# Altium schematic symbol library RX8 GPS engine.SCHLIB: 17 symbols
Pins are listed as number, name and electrical type; pins without a type are passive.

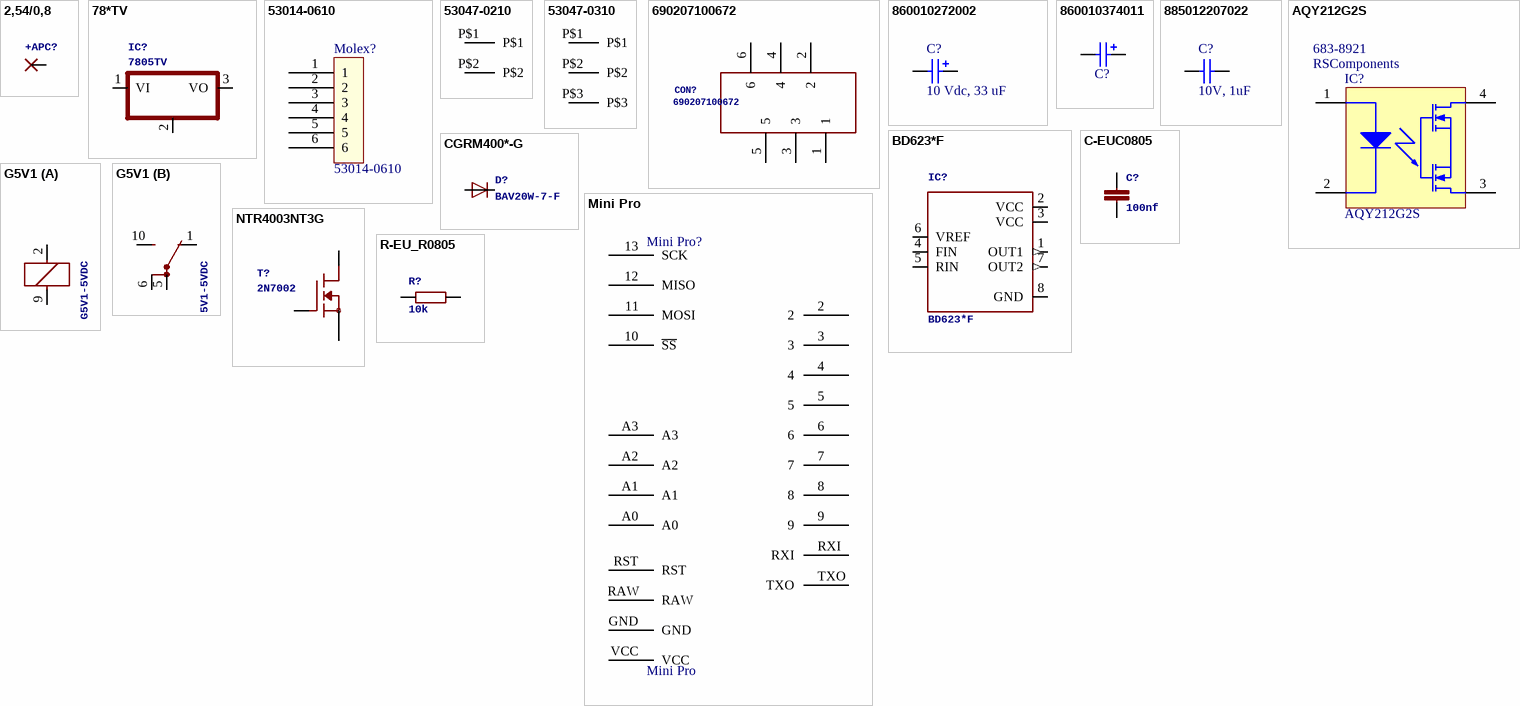
[diagram p0: symbols 2,54/0,8 to R-EU_R0805]

## 2,54/0,8
designator +APC?  (value not drawn)  (no BOM)
THROUGH-HOLE PAD
footprint 2,54/0,8
pins: 1 P

## 78*TV
designator IC?, comment 7805TV
Positive VOLTAGE REGULATOR   Source: http://cache.national.com/ds/LM/LM78L05.pdf http://www.fairchildsemi.com/ds/LM/LM7805.pdf; Manufacturer: ST Microelectronic; Manufacturer Part Number: L7805ACV; Mount: Through Hole; Supplier 1: RSComponents; Supplier Part Number 1: 295-8508
footprint TO220V
pins: 1 VI, 2 GND, 3 VO

## 53014-0610
designator Molex?
Molex connector for push button; Supplier 1: RSComponents; Supplier Part Number 1: 688-2643; Manufacturer: Molex; Manufacturer Part Number: 53014-0610; Mount: Through Hole; Min Operating Temperature: -20°C; Max Operating Temperature: 85°C; Termination: Solder; Length: 14mm
footprint 053014-0610
pins: 1, 2, 3, 4, 5, 6

## 53047-0210
designator U_MOT?  (value not drawn)
Molex Connector for motor; Manufacturer: Molex; Manufacturer Part Number: 53047-0210; Supplier 1: RSComponents; Supplier Part Number 1: 279-9213
footprint 53047-0210
pins: P$1, P$2

## 53047-0310
designator U_POT?  (value not drawn)
Molex connector for position sensor; Manufacturer: Molex; Manufacturer Part Number: 53047-0310; Supplier 1: RSComponents; Supplier Part Number 1: 319-1064
footprint 53047-0310
pins: P$1, P$2, P$3

## 690207100672
designator CON?
WR-MM Connector 6 pins; Manufacturer: Wurth; Manufacturer Part Number: 690207100672; Supplier 1: RSComponents; Supplier Part Number 1: 771-8222
footprint 690207100672
pins: 1, 2, 3, 4, 5, 6

## 860010272002
designator C?, comment 10 Vdc, 33 uF
WCAP-ATG8 Aluminum Electrolytic Capacitors, 5x11mm, 10 Vdc, 33 uF; Part Number: 860010272002; Manufacturer: Nichicon; Manufacturer Part Number: UMA1A330MDD; Rated Voltage: 10 Vdc; Value: 33 uF; Capacitance: 33uF; Tolerance: 20%; Voltage Rating: 10V; Leakage Current: 3.3uA; Life (Hours): 2000Hour; Ripple Current: 41mA; Lead/Base Style: Straight; Lead Diameter: 0.45mm; ComponentLink1Description: Manufacturer; ComponentLink1URL: http://www.we-online.de; ComponentLink2Description: Datasheet; ComponentLink2URL: http://katalog.we-online.de/pbs/datasheet/860010272002.pdf; Published Date: Sep. 2017; Publisher: Wurth Elektronik; Size: 5x11mm; Life Cycle: 2000h; Operating Temperature: -40 °C up to +85 °C; Supplier 1: RSComponents; Supplier Part Number 1: 475-9172; Mount: Through Hole; Case/Package: Radial; Min Operating Temperature: -40°C; Max Operating Temperature: 85°C; Termination: Radial; Voltage Rating (DC): 10V; Package Quantity: 200; Features: General Purpose; Voltage: 10V; Diameter: 5mm; Length: 5mm; Height: 5mm; Lead Pitch: 2mm; Height - Seated (Max): 0.236inch; Radiation Hardening: No
footprint WCAP-ATG8_5x11x2
pins: 1 P, 2 N

## 860010374011
designator C?, comment 16 Vdc, 330 uF  (value not drawn)
WCAP-ATG8 Aluminum Electrolytic Capacitors, 8x11.5mm, 16 Vdc, 330 uF; Manufacturer: CDE Illinois Capacitor; Manufacturer Part Number: 337CKS025M; Dielectric Material: Aluminium; Capacitance: 330uF; Tolerance: 20%; Ripple Current: 455mA; Life (Hours): 2000Hour; Voltage Rating: 25V; ESR (Equivalent Series Resistance): 703mR; Dissipation Factor: 0.14%; Polarity: Polar; Lead Length: 15mm; ComponentLink1Description: Manufacturer; ComponentLink1URL: http://www.we-online.de; ComponentLink2Description: Datasheet; ComponentLink2URL: http://katalog.we-online.de/pbs/datasheet/860010374011.pdf; Supplier 1: Farnell; Supplier Part Number 1: 1203711; Mount: Through Hole; Case/Package: Radial; Min Operating Temperature: -40°C; Max Operating Temperature: 85°C; Voltage Rating (DC): 25V; Package Quantity: 500; Diameter: 8mm; Length: 0.45inch; Height: 11.5mm; Height - Seated (Max): 0.512inch; Lead Pitch: 0.138inch; REACH SVHC: No SVHC; Lead Free: Lead Free
footprint WCAP-ATG8_8x11.5x3.5
pins: 1 P, 2 N

## 885012207022
designator C?, comment 10V, 1uF
WCAP-CSGP Ceramic Capacitors, 0805, X7R, 10V, 1uF; Manufacturer: Kyocera AVX; Manufacturer Part Number: 0805ZC105KAT2A; Tolerance: 10%; Insulation Resistance: 100GR; Dissipation Factor: 5%; ComponentLink1Description: Manufacturer; ComponentLink1URL: http://www.we-online.de; ComponentLink2Description: Datasheet; ComponentLink2URL: http://katalog.we-online.de/pbs/datasheet/885012207022.pdf; Supplier 1: RSComponents; Supplier Part Number 1: 1358615; Mount: Surface Mount; Case/Package: 0805; Number of Pins: 2; Case Code (Imperial): 0805; Case Code (Metric): 2012; Min Operating Temperature: -55°C; Max Operating Temperature: 125°C; Capacitance: 1uF; Dielectric: X7R; Voltage Rating: 10V; Voltage Rating (DC): 10V; Voltage: 10V; Package Quantity: 1; Termination: SMD/SMT; Length: 2.01mm; Height: 1.4mm; Width: 1.25mm; Thickness: 0.055inch; Radiation Hardening: No; Lead Free: Lead Free; REACH SVHC: No SVHC
footprint 0805_2x1.25x1.25mm_Wave Soldering
footprint 0805_2x1.25x1.25mm_Reflow Soldering
pins: 1, 2

## AQY212G2S
designator IC?  Supplier 2: RSComponents  Supplier Part Number 2: 683-8921
PhotoMOS GU SOP 1 Form A High Capacity, 60 V Load Voltage, 1.25 A Continuous Load Current, -40 to 85 degC, 4-Pin SOP, Tube, RoHS; Manufacturer: Omron; Manufacturer Part Number: G3VM-351GL; Max Output Current: 120mA; Max Input Voltage: 1.3V; Max Output Voltage: 350V; Max Input Current: 50mA; On-State Resistance: 35R; Load Current: 110mA; Throw Configuration: SPST; Relay Type: Relay; Isolation Voltage: 1.5kV; Forward Current: 7.5mA; Supplier 1: Farnell; Supplier Part Number 1: 2065737; Mount: Surface Mount; Case/Package: SOP; Number of Pins: 4; Min Operating Temperature: -40°C; Max Operating Temperature: 85°C; Package Quantity: 100; Termination: Gull Wing; Output Current: 120mA; Input Current: 50mA; Output Voltage: 350V; Length: 3.9mm; Height: 1.9mm; Width: 3.9mm; Radiation Hardening: No; REACH SVHC: Unknown; Lead Free: Lead Free; Pricing 2: 1=2.36 (EUR)
footprint PNSC-SOP4_V (SOP, 4-Leads, Body 4.4x4.3mm, Pitch 2.54mm)
pins: 1, 2, 3, 4

## BD623*F
designator IC?
H-bridge driver for brush motors   Source: http://www.rohm.com/products/databook/motor/pdf/bd623x_series-e.pdf; MPN: BD6230F-E2; Manufacturer: Rohm; Manufacturer Part Number: BD6231F-E2; MF: *; OC_FARNELL: 1716264; OC_NEWARK: 15R0529; Length: 5mm; Max Operating Temperature: 85°C; Min Operating Temperature: -40°C; Mount: Surface Mount; Supplier 1: RSComponents; Supplier Part Number 1: 699-6768; Case/Package: SOP
footprint SOP8
pins: 1 OUT1 (out), 2 VCC (power), 3 VCC (power), 4 FIN, 5 RIN, 6 VREF, 7 OUT2 (out), 8 GND (power)

## C-EUC0805
designator C?, comment 100nf
CAPACITOR, European symbol; Manufacturer: KEMET; MPN: C0805C104K5RAC-TU; Dielectric Material: Ceramic; Tolerance: 10%; Voltage Rating (DC): 50V; Dielectric: X7R; Voltage: 500V; Supplier 1: RSComponents; Supplier Part Number 1: 264-4416; Mount: Surface Mount; Case/Package: 0805; Number of Pins: 2; Case Code (Imperial): 0805; Case Code (Metric): 2012; Min Operating Temperature: -55°C; Max Operating Temperature: 125°C; Capacitance: 100nF; Package Quantity: 1; Voltage Rating: 50V; Termination: SMD/SMT; Length: 2mm; Height: 0.9mm; Width: 1.2mm; Lead Pitch: 0.75mm; Thickness: 0.035inch; Radiation Hardening: No; REACH SVHC: No SVHC
footprint C0805
pins: 1, 2

## CGRM400*-G
designator D?, comment BAV20W-7-F
Molded plasitc,JEDEC SOD-123/Mini SMA   Source: Comchip CGRM4001-G.pdf; Manufacturer: Diodes; Forward Current: 200mA; Peak Reverse Current: 15uA; Max Surge Current: 2.5A; Forward Voltage: 1.25V; Recovery Time: 50ns; Max Repetitive Reverse Voltage (Vrrm): 150V; Power Dissipation: 250mW; Element Configuration: Single; Polarity: Standard; Current Rating: 400mA; Capacitance: 5pF; Supplier 1: RSComponents; Supplier Part Number 1: 751-3443; Manufacturer Part Number: BAV20W-7-F; Mount: Surface Mount; Number of Pins: 2; Weight: 0.000353oz; Min Operating Temperature: -65°C; Max Operating Temperature: 150°C; Package Quantity: 3000; Average Rectified Current: 200mA; Reverse Recovery Time: 50ns; Peak Non-Repetitive Surge Current: 2.5A; Voltage Rating (DC): 150V; Power Rating: 250mW; Output Current: 200mA; Max Reverse Voltage (DC): 150V; Length: 2.85mm; Height: 1.25mm; Width: 1.7mm; Radiation Hardening: No; Lead Free: Lead Free
footprint SOD-123_MINI-SMA
pins: A, C

## G5V1
designator K?, comment G5V1-5VDC
RELAY   1 x switch, 0.5 A/125 V AC, 1 A/24 V DC , Omron; Manufacturer Part Number: G5V-1-DC5; Contact Current Rating: 1A; Max Voltage Rating (AC): 125V; Max Voltage Rating (DC): 60V; Throw Configuration: SPDT; Coil Current: 30mA; Operate Time: 5ms; Coil Power: 150mW; Coil Resistance: 167R; Coil Type: Non-Latching; Coil Voltage (DC): 5V; Number of Poles: 1; Relay Type: General Purpose; Insulation Resistance: 1GR; Approvals: CSA,UL; Supplier 1: RSComponents; Supplier Part Number 1: 8411420; Manufacturer: Omron; Mount: Through Hole; Case/Package: DIP; Number of Pins: 6; Min Operating Temperature: -40°C; Max Operating Temperature: 70°C; Max Current Rating: 1A; Termination: PC Pin; Power Consumption: 150mW; Package Quantity: 25; Voltage Rating (AC): 125V; Voltage Rating (DC): 60V; Release Time: 5ms; Current Rating: 1A; Type: Electromechanical; Length: 12.5mm; Height: 10mm; Width: 7.5mm; Radiation Hardening: No; REACH SVHC: Unknown; Lead Free: Lead Free; Supplier Part Number 2: 9949577; Supplier 2: Farnell
footprint G5V1
part A pins: 2 1, 9 2
part B pins: 1 O, 5 P, 6 P, 10 S

## Mini Pro
designator Mini Pro?
Arduino mini pro 5V
footprint ARDUINO Mini Pro
pins: 2, 3, 4, 5, 6, 7, 8, 9, 10 ~{SS}, 11 MOSI, 12 MISO, 13 SCK, A0, A1, A2, A3, GND, RAW, RST, RXI, TXO, VCC

## NTR4003NT3G
designator T?, comment 2N7002
Transistor; Manufacturer: Diodes; Manufacturer Part Number: 2N7002-7-F; Max Power Dissipation: 300mW; Continuous Drain Current (ID): 115mA; Drain to Source Resistance: 7.5R; Gate to Source Voltage (Vgs): 20V; Nominal Vgs: 2.5V; Number of Elements: 1; Drain to Source Voltage (Vdss): 60V; Drain to Source Breakdown Voltage: 70V; Power Dissipation: 540mW; Element Configuration: Single; Input Capacitance: 50pF; Turn-Off Delay Time: 11ns; Turn-On Delay Time: 7ns; Current: 115A; Rise Time: 3ns; Fall Time: 5.6ns; Supplier 1: RSComponents; Supplier Part Number 1: 7082396; Mount: Surface Mount; Case/Package: SOT-23; Number of Pins: 3; Weight: 0.000282oz; Min Operating Temperature: -55°C; Max Operating Temperature: 150°C; Package Quantity: 3000; Threshold Voltage: 2.5V; Voltage Rating (DC): 60V; Current Rating: 115mA; Rds On Max: 7.5R; Number of Channels: 1; On-State Resistance: 7.5R; Dual Supply Voltage: 60V; Voltage: 60V; Termination: SMD/SMT; Length: 2.9mm; Height: 1mm; Width: 1.3mm; Radiation Hardening: No; REACH SVHC: No SVHC; Lead Free: Lead Free
footprint SOT23
pins: 1 G, 2 S, 3 D

## R-EU_R0805
designator R?, comment 10k
RESISTOR, European symbol; Manufacturer: Bourns; Manufacturer Part Number: CRT0805-FZ-1002ELF; Resistance: 10kR; Tolerance: 1%; Temperature Coefficient: 50ppm/°C; Power Rating: 125mW; Voltage Rating: 100V; Max Power Dissipation: 100mW; Parameter 1: *; Supplier 1: RSComponents; Supplier Part Number 1: 740-9224; Mount: Surface Mount; Case/Package: 0805; Case Code (Imperial): 0805; Case Code (Metric): 2012; Min Operating Temperature: -55°C; Max Operating Temperature: 155°C; Composition: Thin Film; Military Standard: Not; Package Quantity: 1; Number of Terminations: 2; Termination: SMD/SMT; Voltage Rating (DC): 100V; Length: 2mm; Height: 0.55mm; Width: 1.25mm; REACH SVHC: No SVHC
footprint R0805
pins: 1, 2